# Altium integrated library Motorola Converter Analog to Digital.IntLib: 3 symbols
Pins are listed as number, name and electrical type; pins without a type are passive.

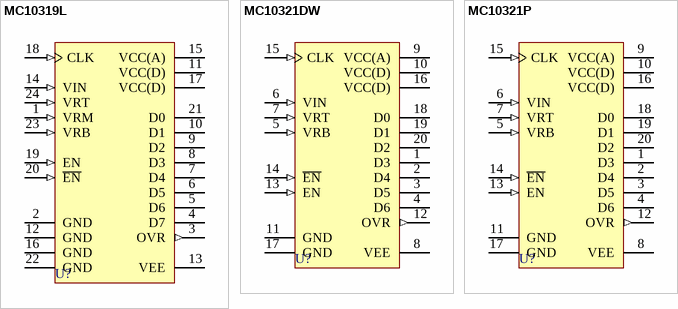
[diagram p0: symbols MC10319L to MC10321P]

## MC10319L
designator U?
High-Speed 8-Bit Analog-to-Digital Flash Converter; Published: 17-Jul-2002; LatestRevisionDate: 06-Jun-2005; LatestRevisionNote: Stylized 3D Model Added.; DatasheetVersion: 1988; PackageReference: 623-05; Publisher: Altium Limited; PackageDescription: DIP; 24 Leads; Row Spacing 15.24 mm; Pitch 2.54 mm; Code_JEDEC: MS-011-AA
footprint 623-05 (DIP; 24 Leads; Row Spacing 15.24 mm; Pitch 2.54 mm)
3D model 623-05 (DIP; 24 Leads; Row Spacing 15.24 mm; Pitch 2.54 mm)
pins: 1 VRM (in), 2 GND (power), 3 OVR (out), 4 D7 (hiz), 5 D6 (hiz), 6 D5 (hiz), 7 D4 (hiz), 8 D3 (hiz), 9 D2 (hiz), 10 D1 (hiz), 11 VCC(D) (power), 12 GND (power), 13 VEE (power), 14 VIN (in), 15 VCC(A) (power), 16 GND (power), 17 VCC(D) (power), 18 CLK (in), 19 EN (in), 20 ~{EN} (in), 21 D0 (hiz), 22 GND (power), 23 VRB (in), 24 VRT (in)

## MC10321DW
designator U?
High-Speed 7-Bit Analog-to-Digital Flash Converter; Published: 17-Jul-2002; LatestRevisionDate: 13-Apr-2006; LatestRevisionNote: IPC-7351 Footprint Added.; DatasheetVersion: 1988; PackageReference: 751D-03; Publisher: Altium Limited; PackageDescription: 20-Pin Small Outline Integrated Circuit 1.27 mm Pitch
footprint 751D-03_N (SOIC, 20-Leads, Body 12.8x7.5mm, Pitch 1.27mm, IPC Medium Density)
footprint 751D-03_L (SOIC, 20-Leads, Body 12.8x7.5mm, Pitch 1.27mm, IPC High Density)
footprint 751D-03_M (SOIC, 20-Leads, Body 12.8x7.5mm, Pitch 1.27mm, IPC Low Density)
3D model 751D-03 (20-Pin Small Outline Integrated Circuit 1.27 mm Pitch)
pins: 1 D3 (hiz), 2 D4 (hiz), 3 D5 (hiz), 4 D6 (hiz), 5 VRB (in), 6 VIN (in), 7 VRT (in), 8 VEE (power), 9 VCC(A) (power), 10 VCC(D) (power), 11 GND (power), 12 OVR (out), 13 EN (in), 14 ~{EN} (in), 15 CLK (in), 16 VCC(D) (power), 17 GND (power), 18 D0 (hiz), 19 D1 (hiz), 20 D2 (hiz)

## MC10321P
designator U?
High-Speed 7-Bit Analog-to-Digital Flash Converter; Published: 17-Jul-2002; LatestRevisionDate: 06-Jun-2005; LatestRevisionNote: Stylized 3D Model Added.; DatasheetVersion: 1988; PackageReference: 738-03; Publisher: Altium Limited; PackageDescription: DIP; 20 Leads; Row Spacing 7.62 mm; Pitch 2.54 mm; Code_JEDEC: MS-001-AD
footprint 738-03 (DIP; 20 Leads; Row Spacing 7.62 mm; Pitch 2.54 mm)
3D model 738-03 (DIP; 20 Leads; Row Spacing 7.62 mm; Pitch 2.54 mm)
pins: 1 D3 (hiz), 2 D4 (hiz), 3 D5 (hiz), 4 D6 (hiz), 5 VRB (in), 6 VIN (in), 7 VRT (in), 8 VEE (power), 9 VCC(A) (power), 10 VCC(D) (power), 11 GND (power), 12 OVR (out), 13 EN (in), 14 ~{EN} (in), 15 CLK (in), 16 VCC(D) (power), 17 GND (power), 18 D0 (hiz), 19 D1 (hiz), 20 D2 (hiz)